# Altium footprint library Passive.PcbLib: 41 footprints (part 3 of 3)
Each footprint in its own frame and in the unit in brackets; x right, y up, seen from the top. Pads: shape width x height; smd on the part's side, far side on the other; paste and mask are expansions set on the pad; w line width, h text height; cw(c..) or ccw(c..) is an arc to the next point about the centre after c.
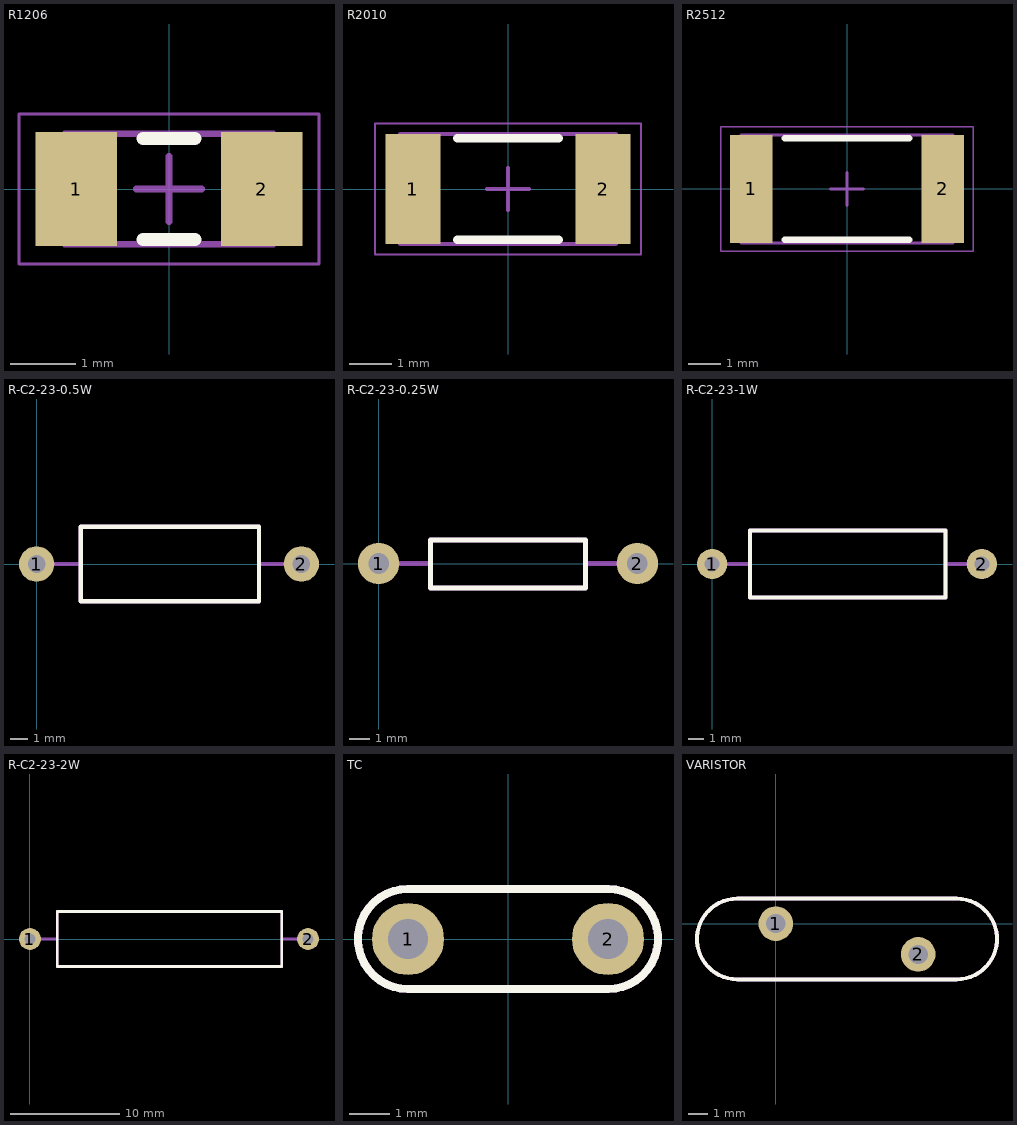
[diagram p2: the footprints below, top view; thin cyan lines are the x and y axes]

## R1206 [mm]
height 0.6
pads (2):
  rect 1.25x1.75 smd: 1(-1.425,0) 2(1.425,0)
Top Overlay:
  lines w0.2: -0.4,-0.775 0.4,-0.775 ; -0.4,0.775 0.4,0.775
TopAssy:
  lines w0.1: -1.6,-0.85 -1.6,0.85 1.6,0.85 1.6,-0.85 -1.6,-0.85
Mechanical 15:
  lines w0.05: -2.3,-1.15 -2.3,1.15 2.3,1.15 2.3,-1.15 -2.3,-1.15
  lines w0.1: -0.5,0 0.5,0 ; 0,-0.5 0,0.5
3D body: height 0.6, standoff 0, extent -1.6,-0.85 -1.1,0.85
3D body: height 0.6, standoff 0, extent 1.1,-0.85 1.6,0.85
3D body: height 0.6, standoff 0, extent -1.1,-0.85 1.1,0.85

## R2010 [mm]
height 0.6
pads (2):
  rect 1.3x2.6 smd: 1(-2.25,0) 2(2.25,0)
Top Overlay:
  lines w0.2: -1.2,-1.2 1.2,-1.2 ; -1.2,1.2 1.2,1.2
TopAssy:
  lines w0.1: -2.55,-1.3 -2.55,1.3 2.55,1.3 2.55,-1.3 -2.55,-1.3
Mechanical 15:
  lines w0.05: -3.15,-1.55 -3.15,1.55 3.15,1.55 3.15,-1.55 -3.15,-1.55
  lines w0.1: -0.5,0 0.5,0 ; 0,-0.5 0,0.5
3D body: height 0.6, standoff 0, extent -1.95,-1.3 1.95,1.3
3D body: height 0.6, standoff 0, extent -2.55,-1.3 -1.95,1.3
3D body: height 0.6, standoff 0, extent 1.95,-1.3 2.55,1.3

## R2512 [mm]
height 0.6
pads (2):
  rect 1.3x3.3 smd: 1(-2.925,0) 2(2.925,0)
Top Overlay:
  lines w0.2: -1.9,-1.55 1.9,-1.55 ; -1.9,1.55 1.9,1.55
TopAssy:
  lines w0.1: -3.225,-1.65 3.225,-1.65 3.225,1.65 -3.225,1.65 -3.225,-1.65
Mechanical 15:
  lines w0.05: -3.85,-1.9 3.85,-1.9 3.85,1.9 -3.85,1.9 -3.85,-1.9
  lines w0.1: -0.5,0 0.5,0 ; 0,-0.5 0,0.5
3D body: height 0.6, standoff 0, extent 2.625,-1.65 3.225,1.65
3D body: height 0.6, standoff 0, extent -3.225,-1.65 -2.625,1.65
3D body: height 0.6, standoff 0, extent -2.625,-1.65 2.625,1.65

## R-C2-23-0.5W [mm]
pads (2):
  round 2 hole 1: 1(0,0) 2(15,0)
Top Overlay:
  lines w0.254: 2.5,-2.1 2.5,2.1 12.6,2.1 12.6,-2.1 2.5,-2.1
TopAssy:
  lines w0.254: -0.1,0 2.5,0 ; 12.6,0 15,0 ; 2.5,-2.1 2.5,2.1 12.6,2.1 12.6,-2.1 2.5,-2.1
3D body "User Library-RES0_5L15.STEP": height 4.7, standoff -2.5, extent -0.3,-2.1 15.3,2.1

## R-C2-23-0.25W [mm]
pads (2):
  round 2 hole 1: 1(0,0) 2(12.5,0)
Top Overlay:
  lines w0.254: 2.5,-1.185 2.5,1.139 10.001,1.139 10.001,-1.185 2.5,-1.185
TopAssy:
  lines w0.254: -0.1,0 2.5,0 ; 10,0 12.5,0 ; 2.5,-1.183 2.5,1.14 10,1.14 10,-1.183 2.5,-1.183
3D body "User Library-RES0_125L12_5.STEP": height 2.8, standoff -2.5, extent -0.3,-1.15 12.8,1.15

## R-C2-23-1W [mm]
pads (2):
  round 2 hole 1: 1(0,0) 2(17.8,0)
Top Overlay:
  lines w0.254: 2.5,-2.2 2.5,2.2 15.4,2.2 15.4,-2.2 2.5,-2.2
TopAssy:
  lines w0.254: -0.1,0 2.5,0 ; 15.4,0 17.8,0 ; 2.5,-2.2 2.5,2.2 15.4,2.2 15.4,-2.2 2.5,-2.2
3D body "User Library-C2-23-1W.step": height 5.25, standoff -2, extent -0.39,-2.25 18.19,2.25

## R-C2-23-2W [mm]
pads (2):
  round 2 hole 1: 1(0,0) 2(25.4,0)
Top Overlay:
  lines w0.254: 2.5,-2.5 23,-2.5 23,2.5 2.5,2.5 2.5,-2.5
TopAssy:
  lines w0.254: -0.1,0 2.5,0 ; 23,0 25.4,0 ; 2.5,-2.5 23,-2.5 23,2.5 2.5,2.5 2.5,-2.5
3D body "User Library-C2-23-2W.step": height 6.5, standoff -3, extent -0.4,-2.5 25.8,2.492

## TC [mm]
pads (2):
  round 1.8 hole 1: 1(-2.5,0) 2(2.5,0)
Top Overlay:
  lines w0.2: -2.5,-1.25 cw(c-2.5,0) -2.5,1.25 2.5,1.25 cw(c2.5,0) 2.5,-1.25 -2.5,-1.25
TopAssy:
  lines w0.2: -2.5,-1.25 cw(c-2.5,0) -2.5,1.25 2.5,1.25 cw(c2.5,0) 2.5,-1.25 -2.5,-1.25
3D body "User Library-Resettable PTC Radial.step": height 11.87, standoff -3.99, extent -4,-1.2 3.9,1.3

## VARISTOR [mm]
pads (2):
  round 1.8 hole 1: 1(0,0) 2(7.4,-1.6)
Top Overlay:
  lines w0.2: -2,-2.9 cw(c-2,-0.8) -2,1.3 9.4,1.3 cw(c9.4,-0.8) 9.4,-2.9 -2,-2.9
TopAssy:
  lines w0.2: -2,-2.9 cw(c-2,-0.8) -2,1.3 9.4,1.3 cw(c9.4,-0.8) 9.4,-2.9 -2,-2.9
3D body "User Library-S14K25 MOV.step": height 18.6, standoff -2.9, extent -4.05,-2.9 11.45,1.3